# Altium footprint library Integrated Circuits.PcbLib: 10 footprints
Each footprint in its own frame and in the unit in brackets; x right, y up, seen from the top. Pads: shape width x height; smd on the part's side, far side on the other; paste and mask are expansions set on the pad; w line width, h text height; cw(c..) or ccw(c..) is an arc to the next point about the centre after c.
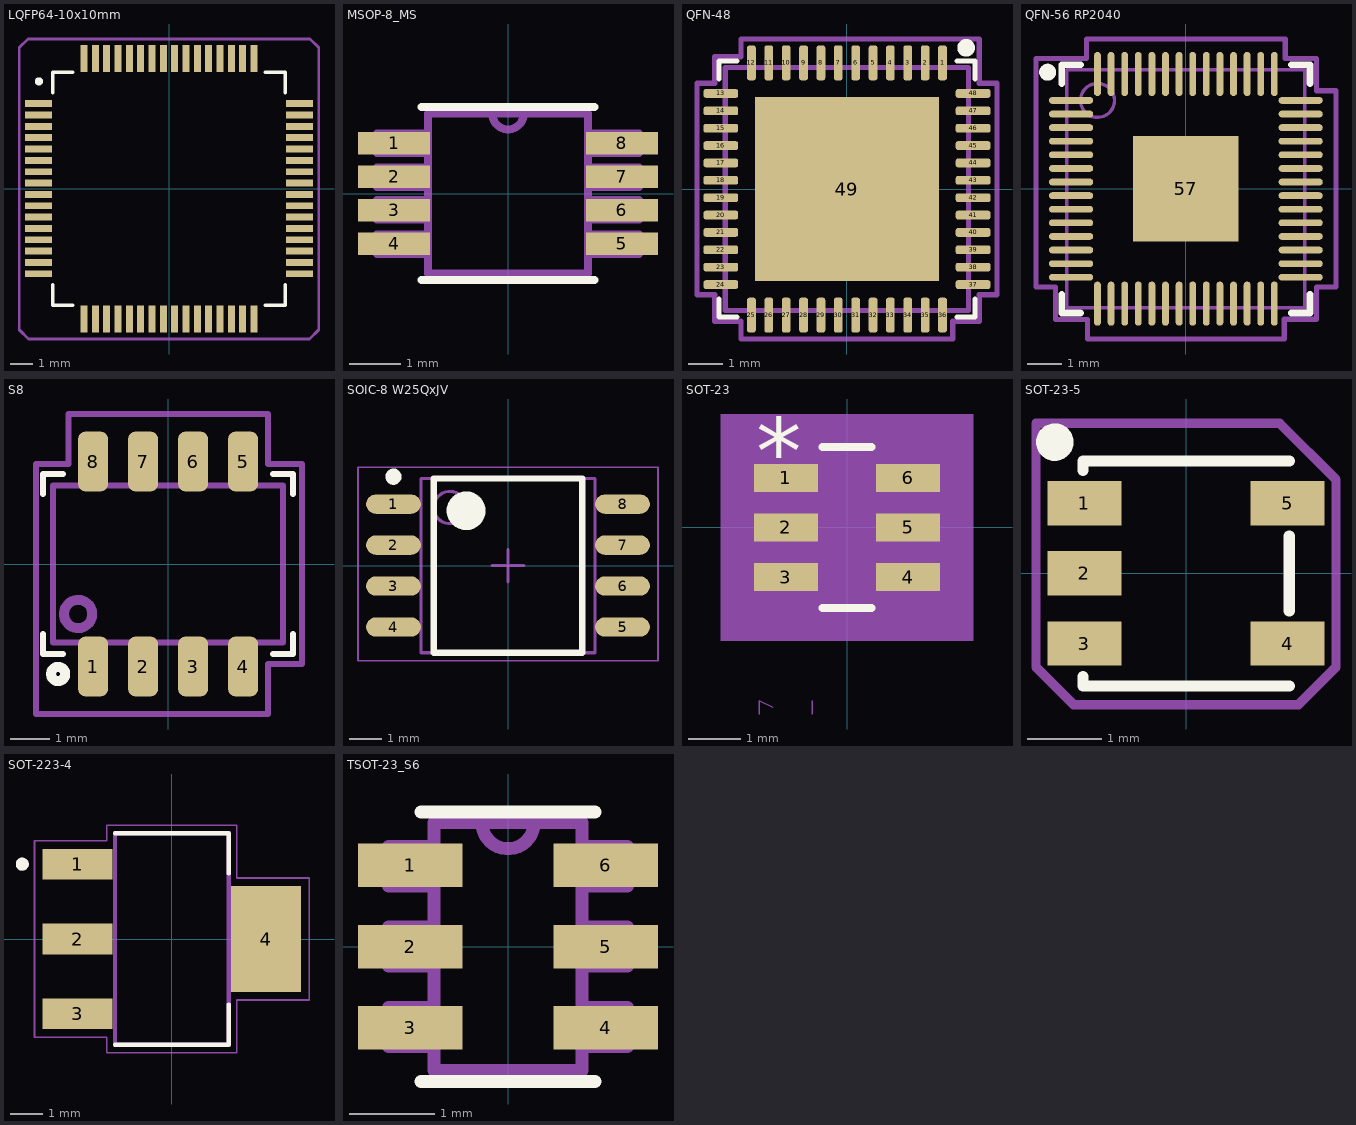
[diagram p0: the footprints below, top view; thin cyan lines are the x and y axes]

## LQFP64-10x10mm [mm]
pads (64):
  rect 1.194x0.305 smd paste+0 mask+0.102: 1(-5.75,3.75) 2(-5.75,3.25) 3(-5.75,2.75) 4(-5.75,2.25) 5(-5.75,1.75) 6(-5.75,1.25) 7(-5.75,0.75) 8(-5.75,0.25) 9(-5.75,-0.25) 10(-5.75,-0.75) 11(-5.75,-1.25) 12(-5.75,-1.75) 13(-5.75,-2.25) 14(-5.75,-2.75) 15(-5.75,-3.25) 16(-5.75,-3.75) 33(5.75,-3.75) 34(5.75,-3.25) 35(5.75,-2.75) 36(5.75,-2.25) 37(5.75,-1.75) 38(5.75,-1.25) 39(5.75,-0.75) 40(5.75,-0.25) 41(5.75,0.25) 42(5.75,0.75) 43(5.75,1.25) 44(5.75,1.75) 45(5.75,2.25) 46(5.75,2.75) 47(5.75,3.25) 48(5.75,3.75)
  rect 0.305x1.194 smd paste+0 mask+0.102: 17(-3.75,-5.75) 18(-3.25,-5.75) 19(-2.75,-5.75) 20(-2.25,-5.75) 21(-1.75,-5.75) 22(-1.25,-5.75) 23(-0.75,-5.75) 24(-0.25,-5.75) 25(0.25,-5.75) 26(0.75,-5.75) 27(1.25,-5.75) 28(1.75,-5.75) 29(2.25,-5.75) 30(2.75,-5.75) 31(3.25,-5.75) 32(3.75,-5.75) 49(3.75,5.75) 50(3.25,5.75) 51(2.75,5.75) 52(2.25,5.75) 53(1.75,5.75) 54(1.25,5.75) 55(0.75,5.75) 56(0.25,5.75) 57(-0.25,5.75) 58(-0.75,5.75) 59(-1.25,5.75) 60(-1.75,5.75) 61(-2.25,5.75) 62(-2.75,5.75) 63(-3.25,5.75) 64(-3.75,5.75)
Top Overlay:
  circle w0.254: c-5.738,4.735 r0.051
  lines w0.152: -5.131,-4.234 -5.131,-5.131 -4.234,-5.131 ; -5.131,4.234 -5.131,5.131 -4.234,5.131 ; 4.234,-5.131 5.131,-5.131 5.131,-4.234 ; 4.234,5.131 5.131,5.131 5.131,4.234
Boundary:
  lines w0.127: -6.604,-6.223 -6.198,-6.629 6.198,-6.629 6.604,-6.223 6.604,6.223 6.223,6.604 -6.223,6.604 -6.604,6.223 -6.604,-6.223
3D body: height 0.25, standoff 0, extent 0,0 0.254,0.254
3D body "LQFP64-10x10mm.step": height 1.6, standoff 0, extent -5.997,-5.997 5.997,5.997

## MSOP-8_MS [mil]
pads (8):
  rect 55x17 smd: 1(-87,38.39) 2(-87,12.8) 3(-87,-12.8) 4(-87,-38.39) 5(87,-38.39) 6(87,-12.8) 7(87,12.8) 8(87,38.39)
Top Overlay:
  lines w6: -66,-66 66,-66 ; -66,66 66,66
Mechanical 13:
  lines w6: -12,61 ccw(c0,61) 12,61 ; -12,61 -61,61 -61,-61 61,-61 61,61 12,61 ; -12,61 12,61 ; -100,-46 -61,-46 -61,-31 -100,-31 -100,-46 ; -100,-20 -61,-20 -61,-5 -100,-5 -100,-20 ; -100,5 -61,5 -61,20 -100,20 -100,5 ; -100,31 -61,31 -61,46 -100,46 -100,31 ; 61,-46 100,-46 100,-31 61,-31 61,-46 ; 61,-20 100,-20 100,-5 61,-5 61,-20 ; 61,5 100,5 100,20 61,20 61,5 ; 61,31 100,31 100,46 61,46 61,31

## QFN-48 [mm] "48 pin QFN package, 7x7mm, 0.5mm pitch"
pads (49):
  rrect50% 0.25x1 smd: 1(2.75,3.63) 2(2.25,3.63) 3(1.75,3.63) 4(1.25,3.63) 5(0.75,3.63) 6(0.25,3.63) 7(-0.25,3.63) 8(-0.75,3.63) 9(-1.25,3.63) 10(-1.75,3.63) 11(-2.25,3.63) 12(-2.75,3.63) 25(-2.75,-3.63) 26(-2.25,-3.63) 27(-1.75,-3.63) 28(-1.25,-3.63) 29(-0.75,-3.63) 30(-0.25,-3.63) 31(0.25,-3.63) 32(0.75,-3.63) 33(1.25,-3.63) 34(1.75,-3.63) 35(2.25,-3.63) 36(2.75,-3.63)
  rrect50% 1x0.25 smd: 13(-3.63,2.75) 14(-3.63,2.25) 15(-3.63,1.75) 16(-3.63,1.25) 17(-3.63,0.75) 18(-3.63,0.25) 19(-3.63,-0.25) 20(-3.63,-0.75) 21(-3.63,-1.25) 22(-3.63,-1.75) 23(-3.63,-2.25) 24(-3.63,-2.75) 37(3.63,-2.75) 38(3.63,-2.25) 39(3.63,-1.75) 40(3.63,-1.25) 41(3.63,-0.75) 42(3.63,-0.25) 43(3.63,0.25) 44(3.63,0.75) 45(3.63,1.25) 46(3.63,1.75) 47(3.63,2.25) 48(3.63,2.75)
  rect 5.3x5.3 smd: 49(0,0)
Top Overlay:
  circle w0.254: c3.429,4.064 r0.127
  lines w0.152: -3.683,-3.175 -3.683,-3.683 -3.175,-3.683 ; -3.683,3.175 -3.683,3.683 -3.175,3.683 ; 3.175,-3.683 3.683,-3.683 3.683,-3.175 ; 3.175,3.683 3.683,3.683 3.683,3.175
Mechanical 1:
  lines w0.152: -3.5,-3.5 -3.5,3.5 3.5,3.5 3.5,-3.5 -3.5,-3.5
Boundary:
  lines w0.152: -4.316,-3.048 -3.81,-3.048 -3.81,-3.81 -3.048,-3.81 -3.048,-4.318 3.048,-4.318 3.048,-3.81 3.81,-3.81 3.81,-3.048 4.318,-3.048 4.318,-2.159 4.318,3.048 3.81,3.048 3.81,3.81 3.81,4.318 1.651,4.318 -3.048,4.318 -3.048,3.81 -3.81,3.81 -3.81,3.048 -4.191,3.048 -4.316,3.048 -4.316,-3.048
3D body "User Library-QFN48-1.STEP": height 0.84, standoff -0.01, extent -3.505,-3.505 3.5,3.505

## QFN-56 RP2040 [mm] "QFN, 56-Leads, Body 7.00x7.00mm, Pitch 0.40mm, Thermal Pad 3.10x3.10mm, IPC Medium Density"
height 0.9
pads (57):
  oval 1.3x0.2 smd: 1(-3.375,2.6) 2(-3.375,2.2) 3(-3.375,1.8) 4(-3.375,1.4) 5(-3.375,1) 6(-3.375,0.6) 7(-3.375,0.2) 8(-3.375,-0.2) 9(-3.375,-0.6) 10(-3.375,-1) 11(-3.375,-1.4) 12(-3.375,-1.8) 13(-3.375,-2.2) 14(-3.375,-2.6) 29(3.375,-2.6) 30(3.375,-2.2) 31(3.375,-1.8) 32(3.375,-1.4) 33(3.375,-1) 34(3.375,-0.6) 35(3.375,-0.2) 36(3.375,0.2) 37(3.375,0.6) 38(3.375,1) 39(3.375,1.4) 40(3.375,1.8) 41(3.375,2.2) 42(3.375,2.6)
  oval 0.2x1.3 smd: 15(-2.6,-3.375) 16(-2.2,-3.375) 17(-1.8,-3.375) 18(-1.4,-3.375) 19(-1,-3.375) 20(-0.6,-3.375) 21(-0.2,-3.375) 22(0.2,-3.375) 23(0.6,-3.375) 24(1,-3.375) 25(1.4,-3.375) 26(1.8,-3.375) 27(2.2,-3.375) 28(2.6,-3.375) 43(2.6,3.375) 44(2.2,3.375) 45(1.8,3.375) 46(1.4,3.375) 47(1,3.375) 48(0.6,3.375) 49(0.2,3.375) 50(-0.2,3.375) 51(-0.6,3.375) 52(-1,3.375) 53(-1.4,3.375) 54(-1.8,3.375) 55(-2.2,3.375) 56(-2.6,3.375)
  rect 3.1x3.1 smd: 57(0,0)
Top Overlay:
  circle w0.25: c-4.064,3.429 r0.125
  lines w0.2: -3.65,-3.1 -3.65,-3.65 -3.1,-3.65 ; -3.65,3.1 -3.65,3.65 -3.1,3.65 ; 3.1,-3.65 3.65,-3.65 3.65,-3.1 ; 3.1,3.65 3.65,3.65 3.65,3.1
Mechanical 1:
  circle w0.1: c-2.6,2.6 r0.5
  lines w0.1: -3.5,-3.5 3.5,-3.5 3.5,3.5 -3.5,3.5 -3.5,-3.5
Boundary:
  lines w0.152: -4.407,-2.886 -4.407,-2.756 -4.407,3.828 -2.921,3.828 -2.921,4.404 2.921,4.404 2.921,3.833 3.836,3.833 3.836,2.884 4.414,2.884 4.414,-2.885 3.838,-2.885 3.838,-3.834 2.89,-3.834 2.89,-4.414 -2.889,-4.414 -2.889,-3.839 -3.834,-3.839 -3.834,-2.886 -4.407,-2.886
3D body "User Library-RP2040_QFN56_04.STEP": height 0.85, standoff -0.05, extent -3.52,-3.52 3.52,3.52

## S8 [mil] "Linear Technologies S8"
pads (8):
  rrect50% 30x60 smd: 1(-75,-102.5) 2(-25,-102.5) 3(25,-102.5) 4(75,-102.5) 5(75,102.5) 6(25,102.5) 7(-25,102.5) 8(-75,102.5)
Top Overlay:
  circle w10: c-110,-110 r7.07
  lines w6: -125,-70 -125,-90 -105,-90 ; -125,70 -125,90 -105,90 ; 105,-90 125,-90 125,-70 ; 105,90 125,90 125,70
Mechanical 1:
  circle w10: c-90,-50 r14.14
  lines w6: -115,-78.5 -115,78.5 115,78.5 115,-78.5 -115,-78.5
Boundary:
  lines w6: -131.99,70.53 -131.99,100 -99.57,100 -99.57,150 100,150 100,100 133.77,100 133.77,3.77 133.77,-100 100,-100 100,-150 -131.88,-150 -131.88,-100 -131.88,70.53
3D body "CircuitWorks-SO-8.step": height 53.5, standoff -3.5, extent -98,-113.75 95,113.75

## SOIC-8 W25QxJV [mm] "SOIC, 8-Leads, Body 5.28x5.28mm, Pitch 1.27mm, IPC Medium Density"
height 2.16
pads (8):
  oval 1.7x0.6 smd: 1(-3.55,1.905) 2(-3.55,0.635) 3(-3.55,-0.635) 4(-3.55,-1.905) 5(3.55,-1.905) 6(3.55,-0.635) 7(3.55,0.635) 8(3.55,1.905)
Top Overlay:
  circle w0.6: c-1.3,1.7 r0.3
  circle w0.25: c-3.55,2.755 r0.125
  lines w0.2: -2.3,-2.7 2.3,-2.7 2.3,2.7 -2.3,2.7 -2.3,-2.7
Boundary:
  lines w0.05: -4.65,-2.95 4.65,-2.95 4.65,3.048 -4.65,3.048 -4.65,-2.95
Mechanical 13:
  circle w0.1: c-1.8,1.8 r0.5
  lines w0.1: -2.7,-2.7 2.7,-2.7 2.7,2.7 -2.7,2.7 -2.7,-2.7
Mechanical 15:
  lines w0.1: -0.5,0 0.5,0 ; 0,-0.5 0,0.5
3D body "W25Q128JVSIQ.STEP": height 1.95, standoff 0, extent -3.95,-2.615 3.95,2.615

## SOT-23 [mil]
pads (6):
  rect 48x21 smd: 1(-46,37.4) 2(-46,0) 3(-46,-37.4) 4(46,-37.4) 5(46,0) 6(46,37.4)
Top Overlay:
  lines w6: -18.41,-60.5 18.41,-60.5 ; -18.41,60.5 18.41,60.5
  text "*" at -68.5,32.9 h50
Mechanical 5:
  region: 95,-85.5 95,85.5 -95,85.5 -95,-85.5
Mechanical 7:
  lines w1: -66,-140.5 -66,-130.5 -56,-135.5 ; -26,-140.5 -26,-130.5
Mechanical 13:
  lines w1: -56,-46.9 -34.5,-46.9 -34.5,-27.9 -56,-27.9 -56,-46.9 ; -56,-9.5 -34.5,-9.5 -34.5,9.5 -56,9.5 -56,-9.5 ; -56,27.9 -34.5,27.9 -34.5,46.9 -56,46.9 -56,27.9 ; -34.5,-60.5 -34.5,60.5 34.5,60.5 34.5,-60.5 -34.5,-60.5 ; 34.5,-46.9 56,-46.9 56,-27.9 34.5,-27.9 34.5,-46.9 ; 34.5,-9.5 56,-9.5 56,9.5 34.5,9.5 34.5,-9.5 ; 34.5,27.9 56,27.9 56,46.9 34.5,46.9 34.5,27.9
  text "*" at -68.5,32.9 h50
Mechanical 15:
  region: 80,-70.5 -80,-70.5 -80,70.5 80,70.5
  lines w6: -80,-70.5 80,-70.5 80,70.5 -80,70.5 -80,-70.5

## SOT-23-5 [mm]
pads (5):
  rect 1x0.6 smd paste+0: 1(-1.375,0.95) 2(-1.375,0) 3(-1.375,-0.95) 4(1.375,-0.95) 5(1.375,0.95)
Top Overlay:
  circle w0.254: c-1.778,1.778 r0.127
  lines w0.152: -1.397,-1.397 -1.397,-1.524 1.397,-1.524 ; -1.397,1.397 -1.397,1.524 1.397,1.524 ; 1.397,-0.508 1.397,0.508
Boundary:
  lines w0.127: -2.032,-1.27 -1.524,-1.778 1.524,-1.778 2.032,-1.27 2.032,1.27 1.27,2.032 -2.032,2.032 -2.032,-1.27
3D body "DBV0005A.stp": height 1.2, standoff 0, extent -1.4,-1.45 1.4,1.45
3D body: height 0.25, standoff 0, extent 0,0 0.254,0.254

## SOT-223-4 [mm]
pads (4):
  rect 2.15x0.95 smd: 1(-2.9,2.3) 2(-2.9,0) 3(-2.9,-2.3)
  rect 2.15x3.25 smd: 4(2.9,0)
Top Overlay:
  circle w0.2: c-4.6,2.3 r0.1
  lines w0.127: -1.75,-3.25 1.75,-3.25 1.75,-2.01 ; -1.75,3.25 1.75,3.25 1.75,2.01
Mechanical 13:
  circle w0.2: c-4.6,2.3 r0.1
  lines w0.127: -1.75,-3.25 -1.75,3.25 1.75,3.25 1.75,-3.25 -1.75,-3.25
Mechanical 15:
  lines w0.05: -4.225,-3.025 -4.225,3.025 -2,3.025 -2,3.5 2,3.5 2,1.875 4.225,1.875 4.225,-1.875 2,-1.875 2,-3.5 -2,-3.5 -2,-3.025 -4.225,-3.025
3D body "SOT-223-4.stp": height 1.68, standoff 0, extent -3.5,-3.175 3.5,3.325

## TSOT-23_S6 [mil]
pads (6):
  rect 48x20 smd: 1(-45,37.4) 2(-45,0) 3(-45,-37.4) 4(45,-37.4) 5(45,0) 6(45,37.4)
Top Overlay:
  lines w6: -40,-62 40,-62 ; -40,62 40,62
Mechanical 13:
  lines w6: -12,57 ccw(c0,57) 12,57 ; -12,57 -34,57 -34,-57 34,-57 34,57 12,57 ; -12,57 12,57 ; -55,-46 -34,-46 -34,-28 -55,-28 -55,-46 ; -55,-9 -34,-9 -34,9 -55,9 -55,-9 ; -55,28 -34,28 -34,46 -55,46 -55,28 ; 34,-46 55,-46 55,-28 34,-28 34,-46 ; 34,-9 55,-9 55,9 34,9 34,-9 ; 34,28 55,28 55,46 34,46 34,28